# Altium schematic symbol library BNX024H01L.Schlib: 1 symbol
Pins are listed as number, name and electrical type; pins without a type are passive.

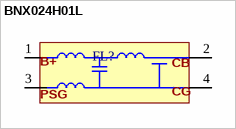
[diagram p0: symbol BNX024H01L]

## BNX024H01L
designator FL?
EMI Filter Circuits 100M Ohm 20A SMD
pins: 1 B+, 2 CB, 3 PSG, 4 CG